# Altium footprint library Connector_Molex.PcbLib: 815 footprints (part 20 of 51)
Each footprint in its own frame and in the unit in brackets; x right, y up, seen from the top. Pads: shape width x height; smd on the part's side, far side on the other; paste and mask are expansions set on the pad; w line width, h text height; cw(c..) or ccw(c..) is an arc to the next point about the centre after c.
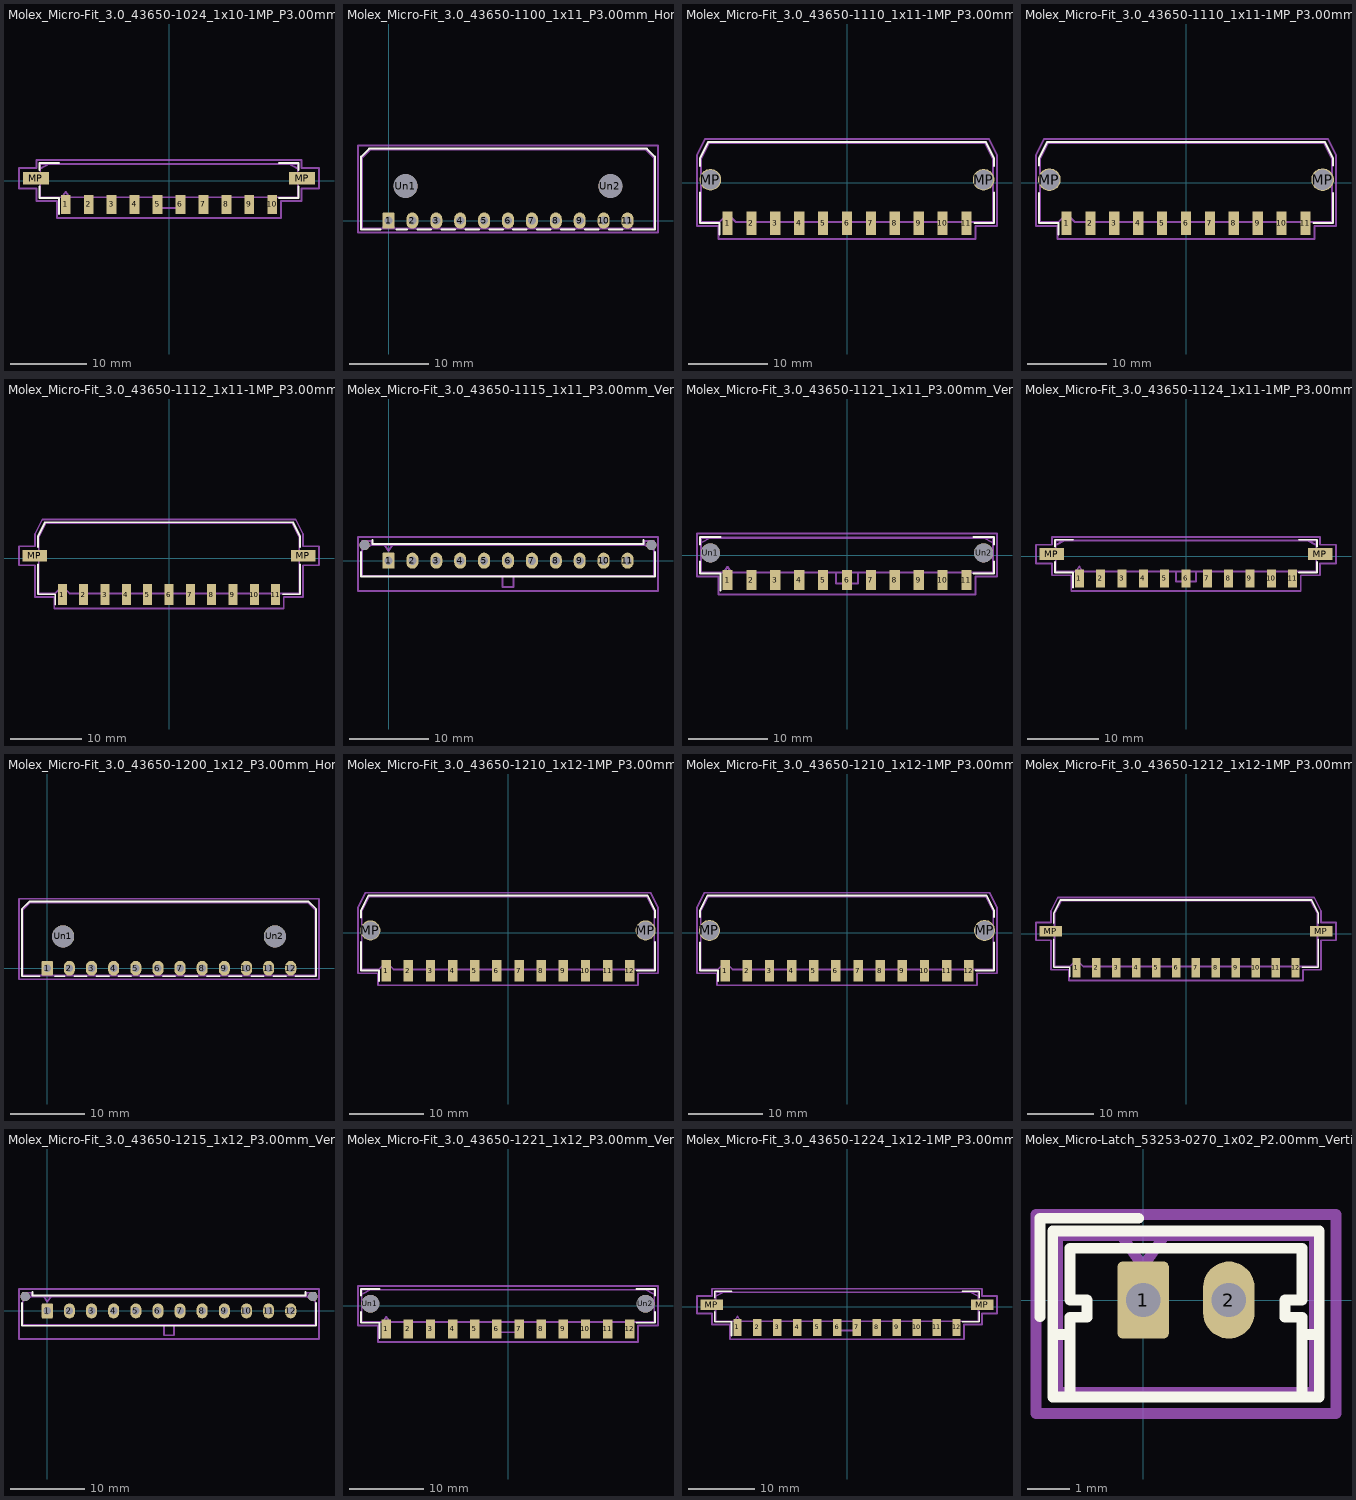
[diagram p19: the footprints below, top view; thin cyan lines are the x and y axes]

## Molex_Micro-Fit_3.0_43650-1024_1x10-1MP_P3.00mm_Vertical [mm]
pads (12):
  rect 1.27x2.54 smd: 1(-13.5,-3.135) 2(-10.5,-3.135) 3(-7.5,-3.135) 4(-4.5,-3.135) 5(-1.5,-3.135) 6(1.5,-3.135) 7(4.5,-3.135) 8(7.5,-3.135) 9(10.5,-3.135) 10(13.5,-3.135)
  rect 3.43x1.65 smd: MP(-17.385,0.285) MP(17.385,0.285)
F.SilkS:
  lines w0.254: -16.935,-0.8 -16.935,-2.295 -14.395,-2.295 -14.395,-4.405 ; -16.935,1.37 -16.935,2.295 -15.515,2.295 -14.395,2.295 ; 14.395,-2.295 16.935,-2.295 16.935,-0.8 ; 14.395,2.295 15.515,2.295 16.935,2.295 16.935,1.37
Top Assembly:
  lines w0.254: -16.825,1.555 -15.625,2.185 ; -14,-2.185 -13.5,-1.478 -13,-2.185 ; -1.4,-2.185 -1.4,-3.585 1.4,-3.585 1.4,-2.185 ; 16.825,1.555 15.625,2.185 ; -15.625,2.185 15.625,2.185 ; -15.625,2.185 -16.825,2.185 -16.825,-2.185 16.825,-2.185 16.825,2.185 15.625,2.185
  text "'.Designator'" at -4.047,-2.32 h1
Top Courtyard:
  lines w0.254: -19.6,-1.04 -17.33,-1.04 -17.33,-2.69 -14.64,-2.69 -14.64,-4.91 0,-4.91 14.64,-4.91 14.64,-2.69 17.33,-2.69 17.33,-1.04 19.6,-1.04 19.6,1.61 17.33,1.61 17.33,2.69 14.64,2.69 0,2.69 -14.64,2.69 -17.33,2.69 -17.33,1.61 -19.6,1.61 -19.6,-1.04
Top Designator:
  text ".Designator" at -7.618,-1.618 h1.52

## Molex_Micro-Fit_3.0_43650-1100_1x11_P3.00mm_Horizontal [mm]
pads (13):
  rrect17% 1.5x2.02 hole 1.02: 1(0,0)
  rrect100% 1.5x2.02 hole 1.02: 2(3,0) 3(6,0) 4(9,0) 5(12,0) 6(15,0) 7(18,0) 8(21,0) 9(24,0) 10(27,0) 11(30,0)
  round 3 hole 3: Un1(2.15,4.32) Un2(27.85,4.32)
F.SilkS:
  lines w0.254: -1.01,-1.09 -3.435,-1.09 -3.435,8.03 -2.435,9.03 32.435,9.03 33.435,8.03 33.435,-1.09 30.652,-1.09 ; 1.01,-1.09 2.348,-1.09 ; 3.652,-1.09 5.348,-1.09 ; 6.652,-1.09 8.348,-1.09 ; 9.652,-1.09 11.348,-1.09 ; 12.652,-1.09 14.348,-1.09 ; 15.652,-1.09 17.348,-1.09 ; 18.652,-1.09 20.348,-1.09 ; 21.652,-1.09 23.348,-1.09 ; 24.652,-1.09 26.348,-1.09 ; 27.652,-1.09 29.348,-1.09
Top Assembly:
  lines w0.254: -0.75,-0.98 0,0 0.75,-0.98 ; -3.325,-0.98 33.325,-0.98 33.325,7.92 32.325,8.92 -2.325,8.92 -3.325,7.92 -3.325,-0.98
  text "'.Designator'" at 10.953,7.38 h1
Top Courtyard:
  lines w0.254: -3.83,-1.49 33.83,-1.49 33.83,9.42 -3.83,9.42 -3.83,-1.49
Top Designator:
  text ".Designator" at 7.382,3.457 h1.52

## Molex_Micro-Fit_3.0_43650-1110_1x11-1MP_P3.00mm_Horizontal [mm]
pads (13):
  rect 1.27x2.92 smd: 1(-15,-5.12) 2(-12,-5.12) 3(-9,-5.12) 4(-6,-5.12) 5(-3,-5.12) 6(0,-5.12) 7(3,-5.12) 8(6,-5.12) 9(9,-5.12) 10(12,-5.12) 11(15,-5.12)
  round 2.71 hole 2.41: MP(-17.15,0.35) MP(17.15,0.35)
F.SilkS:
  lines w0.254: -18.435,-1.225 -18.435,-5.06 -16.005,-5.06 -16.005,-6.52 ; -18.435,2.075 -18.435,3.06 -17.435,5.06 0,5.06 17.435,5.06 18.435,3.06 18.435,2.075 ; 16.005,-5.06 18.435,-5.06 18.435,-1.225
Top Assembly:
  lines w0.254: -18.325,-4.95 -16,-4.95 -15,-3.95 -14,-4.95 0,-4.95 15.635,-4.95 18.325,-4.95 18.325,1.705 18.325,2.95 17.325,4.95 0,4.95 -17.325,4.95 -18.325,2.95 -18.325,1.705 -18.325,-4.95
  text "'.Designator'" at -4.047,3.41 h1
Top Courtyard:
  lines w0.254: -18.83,-5.46 -16.14,-5.46 -16.14,-7.08 0,-7.08 16.14,-7.08 16.14,-5.46 18.83,-5.46 18.83,2.21 18.83,3.45 17.83,5.45 0,5.45 -17.83,5.45 -18.83,3.45 -18.83,2.21 -18.83,-5.46
Top Designator:
  text ".Designator" at -7.618,-1.323 h1.52

## Molex_Micro-Fit_3.0_43650-1110_1x11-1MP_P3.00mm_Horizontal_PnP [mm]
pads (13):
  rect 1.27x2.92 smd: 1(-15,-5.12) 2(-12,-5.12) 3(-9,-5.12) 4(-6,-5.12) 5(-3,-5.12) 6(0,-5.12) 7(3,-5.12) 8(6,-5.12) 9(9,-5.12) 10(12,-5.12) 11(15,-5.12)
  round 2.84 hole 2.54: MP(-17.15,0.35) MP(17.15,0.35)
F.SilkS:
  lines w0.254: -18.435,-1.29 -18.435,-5.06 -16.005,-5.06 -16.005,-6.52 ; -18.435,2.14 -18.435,3.06 -17.435,5.06 0,5.06 17.435,5.06 18.435,3.06 18.435,2.14 ; 16.005,-5.06 18.435,-5.06 18.435,-1.29
Top Assembly:
  lines w0.254: -18.325,-4.95 -16,-4.95 -15,-3.95 -14,-4.95 0,-4.95 15.635,-4.95 18.325,-4.95 18.325,1.77 18.325,2.95 17.325,4.95 0,4.95 -17.325,4.95 -18.325,2.95 -18.325,1.77 -18.325,-4.95
  text "'.Designator'" at -4.047,3.41 h1
Top Courtyard:
  lines w0.254: -18.83,-5.46 -16.14,-5.46 -16.14,-7.08 0,-7.08 16.14,-7.08 16.14,-5.46 18.83,-5.46 18.83,2.27 18.83,3.45 17.83,5.45 0,5.45 -17.83,5.45 -18.83,3.45 -18.83,2.27 -18.83,-5.46
Top Designator:
  text ".Designator" at -7.618,-1.323 h1.52

## Molex_Micro-Fit_3.0_43650-1112_1x11-1MP_P3.00mm_Horizontal [mm]
pads (13):
  rect 1.27x2.92 smd: 1(-15,-5.12) 2(-12,-5.12) 3(-9,-5.12) 4(-6,-5.12) 5(-3,-5.12) 6(0,-5.12) 7(3,-5.12) 8(6,-5.12) 9(9,-5.12) 10(12,-5.12) 11(15,-5.12)
  rect 3.43x1.65 smd: MP(-18.885,0.35) MP(18.885,0.35)
F.SilkS:
  lines w0.254: -18.435,-0.845 -18.435,-5.06 -16.005,-5.06 -16.005,-6.52 ; -18.435,1.545 -18.435,3.06 -17.435,5.06 0,5.06 17.435,5.06 18.435,3.06 18.435,1.545 ; 16.005,-5.06 18.435,-5.06 18.435,-0.845
Top Assembly:
  lines w0.254: -18.325,-4.95 -16,-4.95 -15,-3.95 -14,-4.95 0,-4.95 15.635,-4.95 18.325,-4.95 18.325,1.175 18.325,2.95 17.325,4.95 0,4.95 -17.325,4.95 -18.325,2.95 -18.325,1.175 -18.325,-4.95
  text "'.Designator'" at -4.047,3.41 h1
Top Courtyard:
  lines w0.254: -21.1,-0.98 -18.83,-0.98 -18.83,-5.46 -16.14,-5.46 -16.14,-7.08 0,-7.08 16.14,-7.08 16.14,-5.46 18.83,-5.46 18.83,-0.98 21.1,-0.98 21.1,1.68 18.83,1.68 18.83,3.45 17.83,5.45 0,5.45 -17.83,5.45 -18.83,3.45 -18.83,1.68 -21.1,1.68 -21.1,-0.98
Top Designator:
  text ".Designator" at -7.618,-1.323 h1.52

## Molex_Micro-Fit_3.0_43650-1115_1x11_P3.00mm_Vertical [mm]
pads (13):
  rrect17% 1.5x2.02 hole 1.02: 1(0,0)
  rrect100% 1.5x2.02 hole 1.02: 2(3,0) 3(6,0) 4(9,0) 5(12,0) 6(15,0) 7(18,0) 8(21,0) 9(24,0) 10(27,0) 11(30,0)
  round 1.27 hole 1.27: Un1(-3,1.96) Un2(33,1.96)
F.SilkS:
  lines w0.254: -3.435,1.065 -3.435,-2.01 33.435,-2.01 33.435,1.065 ; -1.995,2.58 -2.015,2.58 -2.015,2.08 32.015,2.08 32.015,2.58 31.995,2.58
Top Assembly:
  lines w0.254: -3.325,1.34 -2.125,1.97 ; -0.5,1.97 0,1.263 0.5,1.97 ; 14.3,-1.9 14.3,-3.3 15.7,-3.3 15.7,-1.9 ; 33.325,1.34 32.125,1.97 ; -2.125,1.97 32.125,1.97 ; -2.125,1.97 -2.125,2.47 -3.325,2.47 -3.325,-1.9 33.325,-1.9 33.325,2.47 32.125,2.47 32.125,1.97
  text "'.Designator'" at 10.953,-2.04 h1
Top Courtyard:
  lines w0.254: -3.83,-3.8 33.83,-3.8 33.83,2.97 -3.83,2.97 -3.83,-3.8
Top Designator:
  text ".Designator" at 7.382,-0.923 h1.52

## Molex_Micro-Fit_3.0_43650-1121_1x11_P3.00mm_Vertical [mm]
pads (13):
  rect 1.27x2.54 smd: 1(-15,-3.135) 2(-12,-3.135) 3(-9,-3.135) 4(-6,-3.135) 5(-3,-3.135) 6(0,-3.135) 7(3,-3.135) 8(6,-3.135) 9(9,-3.135) 10(12,-3.135) 11(15,-3.135)
  round 2.41 hole 2.41: Un1(-17.15,0.285) Un2(17.15,0.285)
F.SilkS:
  lines w0.254: -18.435,-0.8 -18.435,-2.295 -15.895,-2.295 -15.895,-4.405 ; -18.435,1.37 -18.435,2.295 -17.015,2.295 -15.895,2.295 ; 15.895,-2.295 18.435,-2.295 18.435,-0.8 ; 15.895,2.295 17.015,2.295 18.435,2.295 18.435,1.37
Top Assembly:
  lines w0.254: -18.325,1.555 -17.125,2.185 ; -15.5,-2.185 -15,-1.478 -14.5,-2.185 ; -1.4,-2.185 -1.4,-3.585 1.4,-3.585 1.4,-2.185 ; 18.325,1.555 17.125,2.185 ; -17.125,2.185 17.125,2.185 ; -17.125,2.185 -18.325,2.185 -18.325,-2.185 18.325,-2.185 18.325,2.185 17.125,2.185
  text "'.Designator'" at -4.047,-2.32 h1
Top Courtyard:
  lines w0.254: -18.83,-2.69 -16.14,-2.69 -16.14,-4.91 0,-4.91 16.14,-4.91 16.14,-2.69 18.83,-2.69 18.83,2.69 16.14,2.69 0,2.69 -16.14,2.69 -18.83,2.69 -18.83,-2.69
Top Designator:
  text ".Designator" at -7.618,-1.618 h1.52

## Molex_Micro-Fit_3.0_43650-1124_1x11-1MP_P3.00mm_Vertical [mm]
pads (13):
  rect 1.27x2.54 smd: 1(-15,-3.135) 2(-12,-3.135) 3(-9,-3.135) 4(-6,-3.135) 5(-3,-3.135) 6(0,-3.135) 7(3,-3.135) 8(6,-3.135) 9(9,-3.135) 10(12,-3.135) 11(15,-3.135)
  rect 3.43x1.65 smd: MP(-18.885,0.285) MP(18.885,0.285)
F.SilkS:
  lines w0.254: -18.435,-0.8 -18.435,-2.295 -15.895,-2.295 -15.895,-4.405 ; -18.435,1.37 -18.435,2.295 -17.015,2.295 -15.895,2.295 ; 15.895,-2.295 18.435,-2.295 18.435,-0.8 ; 15.895,2.295 17.015,2.295 18.435,2.295 18.435,1.37
Top Assembly:
  lines w0.254: -18.325,1.555 -17.125,2.185 ; -15.5,-2.185 -15,-1.478 -14.5,-2.185 ; -1.4,-2.185 -1.4,-3.585 1.4,-3.585 1.4,-2.185 ; 18.325,1.555 17.125,2.185 ; -17.125,2.185 17.125,2.185 ; -17.125,2.185 -18.325,2.185 -18.325,-2.185 18.325,-2.185 18.325,2.185 17.125,2.185
  text "'.Designator'" at -4.047,-2.32 h1
Top Courtyard:
  lines w0.254: -21.1,-1.04 -18.83,-1.04 -18.83,-2.69 -16.14,-2.69 -16.14,-4.91 0,-4.91 16.14,-4.91 16.14,-2.69 18.83,-2.69 18.83,-1.04 21.1,-1.04 21.1,1.61 18.83,1.61 18.83,2.69 16.14,2.69 0,2.69 -16.14,2.69 -18.83,2.69 -18.83,1.61 -21.1,1.61 -21.1,-1.04
Top Designator:
  text ".Designator" at -7.618,-1.618 h1.52

## Molex_Micro-Fit_3.0_43650-1200_1x12_P3.00mm_Horizontal [mm]
pads (14):
  rrect17% 1.5x2.02 hole 1.02: 1(0,0)
  rrect100% 1.5x2.02 hole 1.02: 2(3,0) 3(6,0) 4(9,0) 5(12,0) 6(15,0) 7(18,0) 8(21,0) 9(24,0) 10(27,0) 11(30,0) 12(33,0)
  round 3 hole 3: Un1(2.15,4.32) Un2(30.85,4.32)
F.SilkS:
  lines w0.254: -1.01,-1.09 -3.435,-1.09 -3.435,8.03 -2.435,9.03 35.435,9.03 36.435,8.03 36.435,-1.09 33.652,-1.09 ; 1.01,-1.09 2.348,-1.09 ; 3.652,-1.09 5.348,-1.09 ; 6.652,-1.09 8.348,-1.09 ; 9.652,-1.09 11.348,-1.09 ; 12.652,-1.09 14.348,-1.09 ; 15.652,-1.09 17.348,-1.09 ; 18.652,-1.09 20.348,-1.09 ; 21.652,-1.09 23.348,-1.09 ; 24.652,-1.09 26.348,-1.09 ; 27.652,-1.09 29.348,-1.09 ; 30.652,-1.09 32.348,-1.09
Top Assembly:
  lines w0.254: -0.75,-0.98 0,0 0.75,-0.98 ; -3.325,-0.98 36.325,-0.98 36.325,7.92 35.325,8.92 -2.325,8.92 -3.325,7.92 -3.325,-0.98
  text "'.Designator'" at 12.453,7.38 h1
Top Courtyard:
  lines w0.254: -3.83,-1.49 36.83,-1.49 36.83,9.42 -3.83,9.42 -3.83,-1.49
Top Designator:
  text ".Designator" at 8.882,3.457 h1.52

## Molex_Micro-Fit_3.0_43650-1210_1x12-1MP_P3.00mm_Horizontal [mm]
pads (14):
  rect 1.27x2.92 smd: 1(-16.5,-5.12) 2(-13.5,-5.12) 3(-10.5,-5.12) 4(-7.5,-5.12) 5(-4.5,-5.12) 6(-1.5,-5.12) 7(1.5,-5.12) 8(4.5,-5.12) 9(7.5,-5.12) 10(10.5,-5.12) 11(13.5,-5.12) 12(16.5,-5.12)
  round 2.71 hole 2.41: MP(-18.65,0.35) MP(18.65,0.35)
F.SilkS:
  lines w0.254: -19.935,-1.225 -19.935,-5.06 -17.505,-5.06 -17.505,-6.52 ; -19.935,2.075 -19.935,3.06 -18.935,5.06 0,5.06 18.935,5.06 19.935,3.06 19.935,2.075 ; 17.505,-5.06 19.935,-5.06 19.935,-1.225
Top Assembly:
  lines w0.254: -19.825,-4.95 -17.5,-4.95 -16.5,-3.95 -15.5,-4.95 0,-4.95 17.135,-4.95 19.825,-4.95 19.825,1.705 19.825,2.95 18.825,4.95 0,4.95 -18.825,4.95 -19.825,2.95 -19.825,1.705 -19.825,-4.95
  text "'.Designator'" at -4.047,3.41 h1
Top Courtyard:
  lines w0.254: -20.33,-5.46 -17.64,-5.46 -17.64,-7.08 0,-7.08 17.64,-7.08 17.64,-5.46 20.33,-5.46 20.33,2.21 20.33,3.45 19.33,5.45 0,5.45 -19.33,5.45 -20.33,3.45 -20.33,2.21 -20.33,-5.46
Top Designator:
  text ".Designator" at -7.618,-1.323 h1.52

## Molex_Micro-Fit_3.0_43650-1210_1x12-1MP_P3.00mm_Horizontal_PnP [mm]
pads (14):
  rect 1.27x2.92 smd: 1(-16.5,-5.12) 2(-13.5,-5.12) 3(-10.5,-5.12) 4(-7.5,-5.12) 5(-4.5,-5.12) 6(-1.5,-5.12) 7(1.5,-5.12) 8(4.5,-5.12) 9(7.5,-5.12) 10(10.5,-5.12) 11(13.5,-5.12) 12(16.5,-5.12)
  round 2.84 hole 2.54: MP(-18.65,0.35) MP(18.65,0.35)
F.SilkS:
  lines w0.254: -19.935,-1.29 -19.935,-5.06 -17.505,-5.06 -17.505,-6.52 ; -19.935,2.14 -19.935,3.06 -18.935,5.06 0,5.06 18.935,5.06 19.935,3.06 19.935,2.14 ; 17.505,-5.06 19.935,-5.06 19.935,-1.29
Top Assembly:
  lines w0.254: -19.825,-4.95 -17.5,-4.95 -16.5,-3.95 -15.5,-4.95 0,-4.95 17.135,-4.95 19.825,-4.95 19.825,1.77 19.825,2.95 18.825,4.95 0,4.95 -18.825,4.95 -19.825,2.95 -19.825,1.77 -19.825,-4.95
  text "'.Designator'" at -4.047,3.41 h1
Top Courtyard:
  lines w0.254: -20.33,-5.46 -17.64,-5.46 -17.64,-7.08 0,-7.08 17.64,-7.08 17.64,-5.46 20.33,-5.46 20.33,2.27 20.33,3.45 19.33,5.45 0,5.45 -19.33,5.45 -20.33,3.45 -20.33,2.27 -20.33,-5.46
Top Designator:
  text ".Designator" at -7.618,-1.323 h1.52

## Molex_Micro-Fit_3.0_43650-1212_1x12-1MP_P3.00mm_Horizontal [mm]
pads (14):
  rect 1.27x2.92 smd: 1(-16.5,-5.12) 2(-13.5,-5.12) 3(-10.5,-5.12) 4(-7.5,-5.12) 5(-4.5,-5.12) 6(-1.5,-5.12) 7(1.5,-5.12) 8(4.5,-5.12) 9(7.5,-5.12) 10(10.5,-5.12) 11(13.5,-5.12) 12(16.5,-5.12)
  rect 3.43x1.65 smd: MP(-20.385,0.35) MP(20.385,0.35)
F.SilkS:
  lines w0.254: -19.935,-0.845 -19.935,-5.06 -17.505,-5.06 -17.505,-6.52 ; -19.935,1.545 -19.935,3.06 -18.935,5.06 0,5.06 18.935,5.06 19.935,3.06 19.935,1.545 ; 17.505,-5.06 19.935,-5.06 19.935,-0.845
Top Assembly:
  lines w0.254: -19.825,-4.95 -17.5,-4.95 -16.5,-3.95 -15.5,-4.95 0,-4.95 17.135,-4.95 19.825,-4.95 19.825,1.175 19.825,2.95 18.825,4.95 0,4.95 -18.825,4.95 -19.825,2.95 -19.825,1.175 -19.825,-4.95
  text "'.Designator'" at -4.047,3.41 h1
Top Courtyard:
  lines w0.254: -22.6,-0.98 -20.33,-0.98 -20.33,-5.46 -17.64,-5.46 -17.64,-7.08 0,-7.08 17.64,-7.08 17.64,-5.46 20.33,-5.46 20.33,-0.98 22.6,-0.98 22.6,1.68 20.33,1.68 20.33,3.45 19.33,5.45 0,5.45 -19.33,5.45 -20.33,3.45 -20.33,1.68 -22.6,1.68 -22.6,-0.98
Top Designator:
  text ".Designator" at -7.618,-1.323 h1.52

## Molex_Micro-Fit_3.0_43650-1215_1x12_P3.00mm_Vertical [mm]
pads (14):
  rrect17% 1.5x2.02 hole 1.02: 1(0,0)
  rrect100% 1.5x2.02 hole 1.02: 2(3,0) 3(6,0) 4(9,0) 5(12,0) 6(15,0) 7(18,0) 8(21,0) 9(24,0) 10(27,0) 11(30,0) 12(33,0)
  round 1.27 hole 1.27: Un1(-3,1.96) Un2(36,1.96)
F.SilkS:
  lines w0.254: -3.435,1.065 -3.435,-2.01 36.435,-2.01 36.435,1.065 ; -1.995,2.58 -2.015,2.58 -2.015,2.08 35.015,2.08 35.015,2.58 34.995,2.58
Top Assembly:
  lines w0.254: -3.325,1.34 -2.125,1.97 ; -0.5,1.97 0,1.263 0.5,1.97 ; 15.8,-1.9 15.8,-3.3 17.2,-3.3 17.2,-1.9 ; 36.325,1.34 35.125,1.97 ; -2.125,1.97 35.125,1.97 ; -2.125,1.97 -2.125,2.47 -3.325,2.47 -3.325,-1.9 36.325,-1.9 36.325,2.47 35.125,2.47 35.125,1.97
  text "'.Designator'" at 12.453,-2.04 h1
Top Courtyard:
  lines w0.254: -3.83,-3.8 36.83,-3.8 36.83,2.97 -3.83,2.97 -3.83,-3.8
Top Designator:
  text ".Designator" at 8.882,-0.923 h1.52

## Molex_Micro-Fit_3.0_43650-1221_1x12_P3.00mm_Vertical [mm]
pads (14):
  rect 1.27x2.54 smd: 1(-16.5,-3.135) 2(-13.5,-3.135) 3(-10.5,-3.135) 4(-7.5,-3.135) 5(-4.5,-3.135) 6(-1.5,-3.135) 7(1.5,-3.135) 8(4.5,-3.135) 9(7.5,-3.135) 10(10.5,-3.135) 11(13.5,-3.135) 12(16.5,-3.135)
  round 2.41 hole 2.41: Un1(-18.65,0.285) Un2(18.65,0.285)
F.SilkS:
  lines w0.254: -19.935,-0.8 -19.935,-2.295 -17.395,-2.295 -17.395,-4.405 ; -19.935,1.37 -19.935,2.295 -18.515,2.295 -17.395,2.295 ; 17.395,-2.295 19.935,-2.295 19.935,-0.8 ; 17.395,2.295 18.515,2.295 19.935,2.295 19.935,1.37
Top Assembly:
  lines w0.254: -19.825,1.555 -18.625,2.185 ; -17,-2.185 -16.5,-1.478 -16,-2.185 ; -1.4,-2.185 -1.4,-3.585 1.4,-3.585 1.4,-2.185 ; 19.825,1.555 18.625,2.185 ; -18.625,2.185 18.625,2.185 ; -18.625,2.185 -19.825,2.185 -19.825,-2.185 19.825,-2.185 19.825,2.185 18.625,2.185
  text "'.Designator'" at -4.047,-2.32 h1
Top Courtyard:
  lines w0.254: -20.33,-2.69 -17.64,-2.69 -17.64,-4.91 0,-4.91 17.64,-4.91 17.64,-2.69 20.33,-2.69 20.33,2.69 17.64,2.69 0,2.69 -17.64,2.69 -20.33,2.69 -20.33,-2.69
Top Designator:
  text ".Designator" at -7.618,-1.618 h1.52

## Molex_Micro-Fit_3.0_43650-1224_1x12-1MP_P3.00mm_Vertical [mm]
pads (14):
  rect 1.27x2.54 smd: 1(-16.5,-3.135) 2(-13.5,-3.135) 3(-10.5,-3.135) 4(-7.5,-3.135) 5(-4.5,-3.135) 6(-1.5,-3.135) 7(1.5,-3.135) 8(4.5,-3.135) 9(7.5,-3.135) 10(10.5,-3.135) 11(13.5,-3.135) 12(16.5,-3.135)
  rect 3.43x1.65 smd: MP(-20.385,0.285) MP(20.385,0.285)
F.SilkS:
  lines w0.254: -19.935,-0.8 -19.935,-2.295 -17.395,-2.295 -17.395,-4.405 ; -19.935,1.37 -19.935,2.295 -18.515,2.295 -17.395,2.295 ; 17.395,-2.295 19.935,-2.295 19.935,-0.8 ; 17.395,2.295 18.515,2.295 19.935,2.295 19.935,1.37
Top Assembly:
  lines w0.254: -19.825,1.555 -18.625,2.185 ; -17,-2.185 -16.5,-1.478 -16,-2.185 ; -1.4,-2.185 -1.4,-3.585 1.4,-3.585 1.4,-2.185 ; 19.825,1.555 18.625,2.185 ; -18.625,2.185 18.625,2.185 ; -18.625,2.185 -19.825,2.185 -19.825,-2.185 19.825,-2.185 19.825,2.185 18.625,2.185
  text "'.Designator'" at -4.047,-2.32 h1
Top Courtyard:
  lines w0.254: -22.6,-1.04 -20.33,-1.04 -20.33,-2.69 -17.64,-2.69 -17.64,-4.91 0,-4.91 17.64,-4.91 17.64,-2.69 20.33,-2.69 20.33,-1.04 22.6,-1.04 22.6,1.61 20.33,1.61 20.33,2.69 17.64,2.69 0,2.69 -17.64,2.69 -20.33,2.69 -20.33,1.61 -22.6,1.61 -22.6,-1.04
Top Designator:
  text ".Designator" at -7.618,-1.618 h1.52

## Molex_Micro-Latch_53253-0270_1x02_P2.00mm_Vertical [mm]
pads (2):
  rrect21% 1.2x1.8 hole 0.8: 1(0,0)
  rrect100% 1.2x1.8 hole 0.8: 2(2,0)
F.SilkS:
  lines w0.254: -2.41,-0.39 -2.41,1.91 -0.11,1.91 ; -2.11,-0.8 -1.71,-0.8 ; -1.71,-2.26 -1.71,-0.4 -1.31,-0.4 -1.31,0 -1.71,0 -1.71,1.21 1,1.21 3.71,1.21 3.71,0 3.31,0 3.31,-0.4 3.71,-0.4 3.71,-2.26 ; 3.71,-0.8 4.11,-0.8 ; -2.11,-2.26 4.11,-2.26 4.11,1.61 -2.11,1.61 -2.11,-2.26
Top Assembly:
  lines w0.254: -0.5,1.5 0,0.793 0.5,1.5 ; -2,-2.15 4,-2.15 4,1.5 -2,1.5 -2,-2.15
  text "'.Designator'" at -3.047,-2.29 h1
Top Courtyard:
  lines w0.254: -2.5,-2.65 4.5,-2.65 4.5,2 -2.5,2 -2.5,-2.65
Top Designator:
  text ".Designator" at -6.768,-0.833 h1.52